# Altium schematic symbol library thuvienthong.SchLib: 91 symbols
Pins are listed as number, name and electrical type; pins without a type are passive.

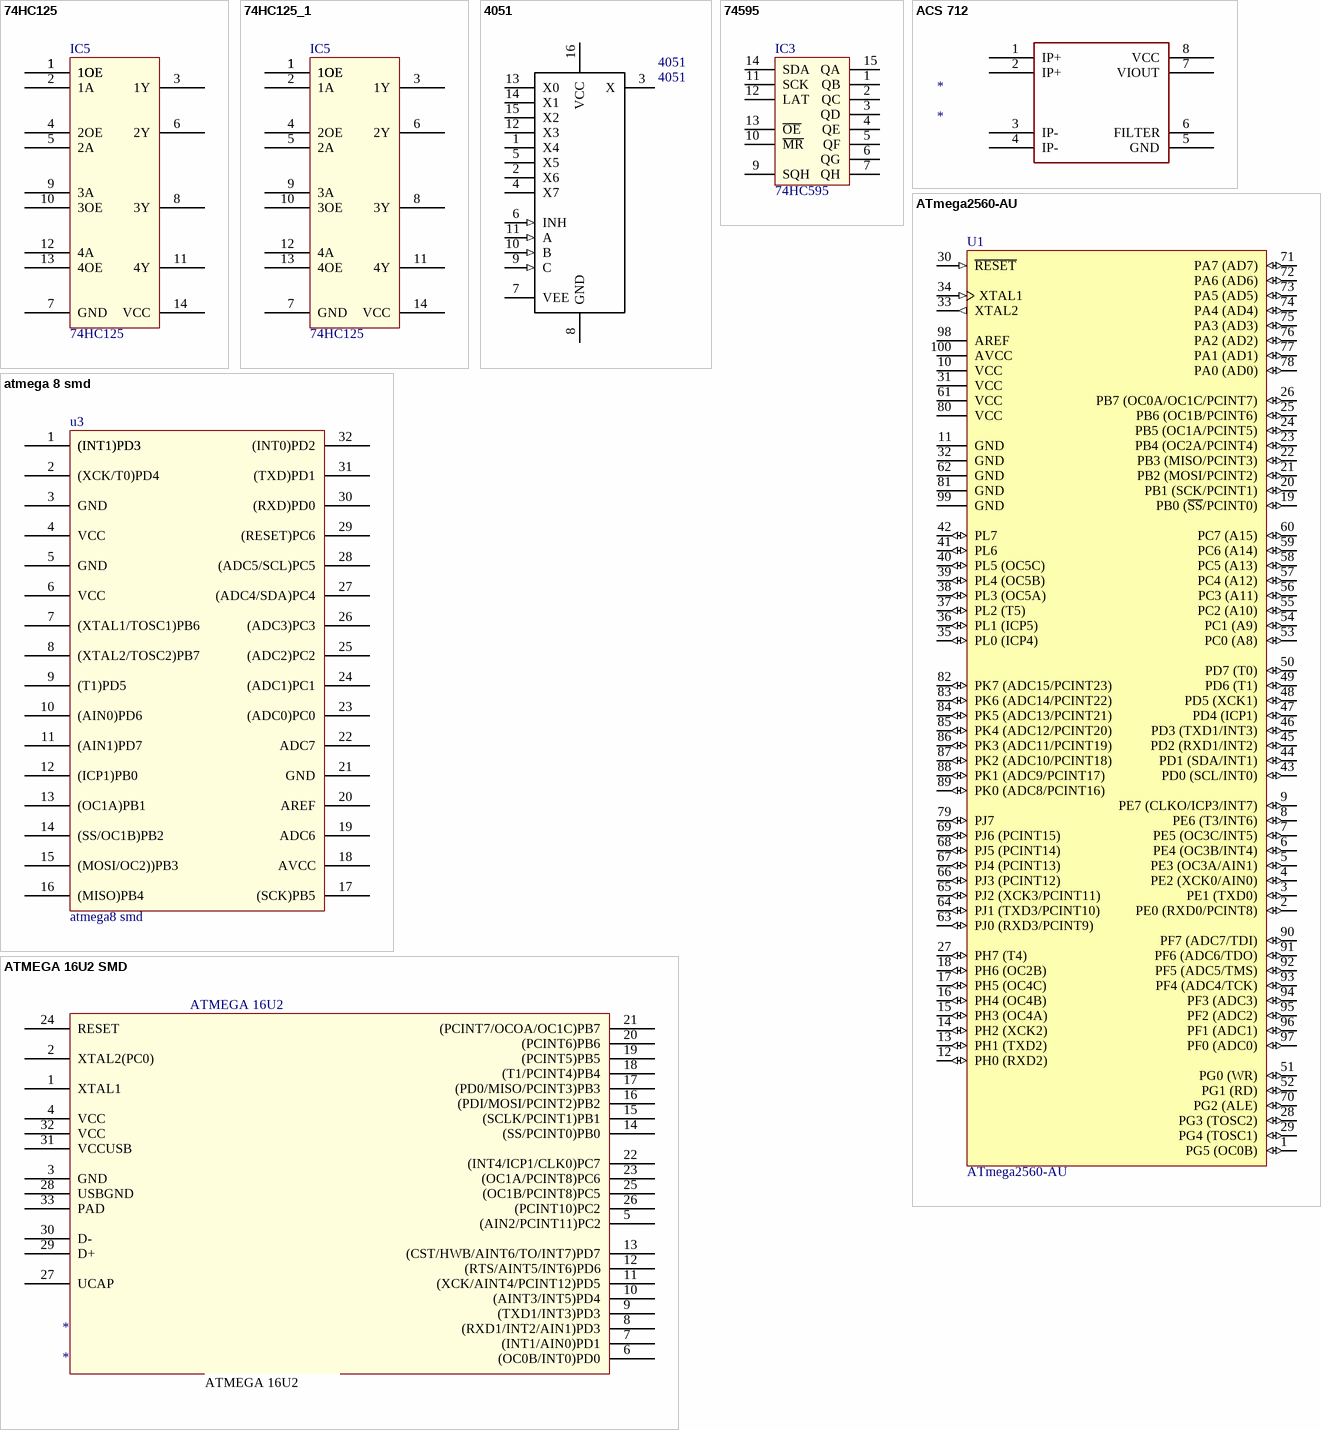
[diagram p0: symbols 74HC125 to ATMEGA 16U2 SMD]

## 74HC125
designator IC5
footprint 74HC125
footprint 74HC125
pins: 1 1OE, 1 1OE, 1 1OE, 1 1OE, 1 1OE, 2 1A, 3 1Y, 4 2OE, 5 2A, 6 2Y, 7 GND, 8 3Y, 9 3A, 10 3OE, 11 4Y, 12 4A, 13 4OE, 14 VCC

## 74HC125_1
designator IC5, comment 74HC125
footprint 74HC125
footprint 74HC125
pins: 1 1OE, 1 1OE, 1 1OE, 1 1OE, 1 1OE, 2 1A, 3 1Y, 4 2OE, 5 2A, 6 2Y, 7 GND, 8 3Y, 9 3A, 10 3OE, 11 4Y, 12 4A, 13 4OE, 14 VCC

## 4051
designator 4051
pins: 1 X4, 2 X6, 3 X, 4 X7, 5 X5, 6 INH (in), 7 VEE, 8 GND (power), 9 C (in), 10 B (in), 11 A (in), 12 X3, 13 X0, 14 X1, 15 X2, 16 VCC (power)

## 74595
designator IC3, comment 74HC595
8 Bit Serial input - Parallel Output; Value: 74HC595
footprint DIP16/W0.3 (16 PIN, W 300mil, Pin to pin 100mil)
footprint SO-16 (SOIC, 16-Leads, Body 9.9x3.9mm, Pitch 1.27mm, IPC Medium Density)
footprint SMD 16 PIN
pins: 1 QB, 2 QC, 3 QD, 4 QE, 5 QF, 6 QG, 7 QH, 8 GND hidden to GND, 9 SQH "OUTPUT", 10 ~{MR} "OUTPUT", 11 SCK "OUTPUT", 12 LAT "OUTPUT", 13 ~{OE} "OUTPUT", 14 SDA "OUTPUT", 15 QA, 16 VCC hidden to VCC

## ACS 712
designator *
footprint MAX 485
pins: 1 IP+, 2 IP+, 3 IP-, 4 IP-, 5 GND, 6 FILTER, 7 VIOUT, 8 VCC

## ATmega2560-AU
designator U1
Supplier 1: Digi-Key; Supplier Part Number 1: ATMEGA2560-16AUR-ND
footprint ATMEGA2560UA
pins: 1 PG5 (OC0B) (io), 2 PE0 (RXD0/PCINT8) (io), 3 PE1 (TXD0) (io), 4 PE2 (XCK0/AIN0) (io), 5 PE3 (OC3A/AIN1) (io), 6 PE4 (OC3B/INT4) (io), 7 PE5 (OC3C/INT5) (io), 8 PE6 (T3/INT6) (io), 9 PE7 (CLKO/ICP3/INT7) (io), 10 VCC (power), 11 GND (power), 12 PH0 (RXD2) (io), 13 PH1 (TXD2) (io), 14 PH2 (XCK2) (io), 15 PH3 (OC4A) (io), 16 PH4 (OC4B) (io), 17 PH5 (OC4C) (io), 18 PH6 (OC2B) (io), 19 PB0 (~{SS}/PCINT0) (io), 20 PB1 (SCK/PCINT1) (io), 21 PB2 (MOSI/PCINT2) (io), 22 PB3 (MISO/PCINT3) (io), 23 PB4 (OC2A/PCINT4) (io), 24 PB5 (OC1A/PCINT5) (io), 25 PB6 (OC1B/PCINT6) (io), 26 PB7 (OC0A/OC1C/PCINT7) (io), 27 PH7 (T4) (io), 28 PG3 (TOSC2) (io), 29 PG4 (TOSC1) (io), 30 ~{RESET} (in), 31 VCC (power), 32 GND (power), 33 XTAL2 (out), 34 XTAL1 (in), 35 PL0 (ICP4) (io), 36 PL1 (ICP5) (io), 37 PL2 (T5) (io), 38 PL3 (OC5A) (io), 39 PL4 (OC5B) (io), 40 PL5 (OC5C) (io), 41 PL6 (io), 42 PL7 (io), 43 PD0 (SCL/INT0) (io), 44 PD1 (SDA/INT1) (io), 45 PD2 (RXD1/INT2) (io), 46 PD3 (TXD1/INT3) (io), 47 PD4 (ICP1) (io), 48 PD5 (XCK1) (io), 49 PD6 (T1) (io), 50 PD7 (T0) (io), 51 PG0 (WR) (io), 52 PG1 (RD) (io), 53 PC0 (A8) (io), 54 PC1 (A9) (io), 55 PC2 (A10) (io), 56 PC3 (A11) (io), 57 PC4 (A12) (io), 58 PC5 (A13) (io), 59 PC6 (A14) (io), 60 PC7 (A15) (io), 61 VCC (power), 62 GND (power), 63 PJ0 (RXD3/PCINT9) (io), 64 PJ1 (TXD3/PCINT10) (io), 65 PJ2 (XCK3/PCINT11) (io), 66 PJ3 (PCINT12) (io), 67 PJ4 (PCINT13) (io), 68 PJ5 (PCINT14) (io), 69 PJ6 (PCINT15) (io), 70 PG2 (ALE) (io), 71 PA7 (AD7) (io), 72 PA6 (AD6) (io), 73 PA5 (AD5) (io), 74 PA4 (AD4) (io), 75 PA3 (AD3) (io), 76 PA2 (AD2) (io), 77 PA1 (AD1) (io), 78 PA0 (AD0) (io), 79 PJ7 (io), 80 VCC (power), 81 GND (power), 82 PK7 (ADC15/PCINT23) (io), 83 PK6 (ADC14/PCINT22) (io), 84 PK5 (ADC13/PCINT21) (io), 85 PK4 (ADC12/PCINT20) (io), 86 PK3 (ADC11/PCINT19) (io), 87 PK2 (ADC10/PCINT18) (io), 88 PK1 (ADC9/PCINT17) (io), 89 PK0 (ADC8/PCINT16) (io), 90 PF7 (ADC7/TDI) (io), 91 PF6 (ADC6/TDO) (io), 92 PF5 (ADC5/TMS) (io), 93 PF4 (ADC4/TCK) (io), 94 PF3 (ADC3) (io), 95 PF2 (ADC2) (io), 96 PF1 (ADC1) (io), 97 PF0 (ADC0) (io), 98 AREF (power), 99 GND (power), 100 AVCC (power)

## atmega 8 smd
designator u3, comment atmega8 smd
footprint ATMEGA 8 SMD 32 PIN
pins: 1 (INT1)PD3, 1 (INT1)PD3, 2 (XCK/T0)PD4, 3 GND, 4 VCC, 5 GND, 6 VCC, 7 (XTAL1/TOSC1)PB6, 8 (XTAL2/TOSC2)PB7, 9 (T1)PD5, 10 (AIN0)PD6, 11 (AIN1)PD7, 12 (ICP1)PB0, 13 (OC1A)PB1, 14 (SS/OC1B)PB2, 15 (MOSI/OC2))PB3, 16 (MISO)PB4, 17 (SCK)PB5, 18 AVCC, 19 ADC6, 20 AREF, 21 GND, 22 ADC7, 23 (ADC0)PC0, 24 (ADC1)PC1, 25 (ADC2)PC2, 26 (ADC3)PC3, 27 (ADC4/SDA)PC4, 28 (ADC5/SCL)PC5, 29 (RESET)PC6, 30 (RXD)PD0, 31 (TXD)PD1, 32 (INT0)PD2

## ATMEGA 16U2 SMD
designator *
footprint ATMEGA 16U2 (MLF32)
pins: 1 XTAL1, 2 XTAL2(PC0), 3 GND, 4 VCC, 5 (AIN2/PCINT11)PC2, 6 (OC0B/INT0)PD0, 7 (INT1/AIN0)PD1, 8 (RXD1/INT2/AIN1)PD3, 9 (TXD1/INT3)PD3, 10 (AINT3/INT5)PD4, 11 (XCK/AINT4/PCINT12)PD5, 12 (RTS/AINT5/INT6)PD6, 13 (CST/HWB/AINT6/TO/INT7)PD7, 14 (SS/PCINT0)PB0, 15 (SCLK/PCINT1)PB1, 16 (PDI/MOSI/PCINT2)PB2, 17 (PD0/MISO/PCINT3)PB3, 18 (T1/PCINT4)PB4, 19 (PCINT5)PB5, 20 (PCINT6)PB6, 21 (PCINT7/OCOA/OC1C)PB7, 22 (INT4/ICP1/CLK0)PC7, 23 (OC1A/PCINT8)PC6, 24 RESET, 25 (OC1B/PCINT8)PC5, 26 (PCINT10)PC2, 27 UCAP, 28 USBGND, 29 D+, 30 D-, 31 VCCUSB, 32 VCC, 33 PAD
text: ATMEGA 16U2; ATMEGA 16U2 /

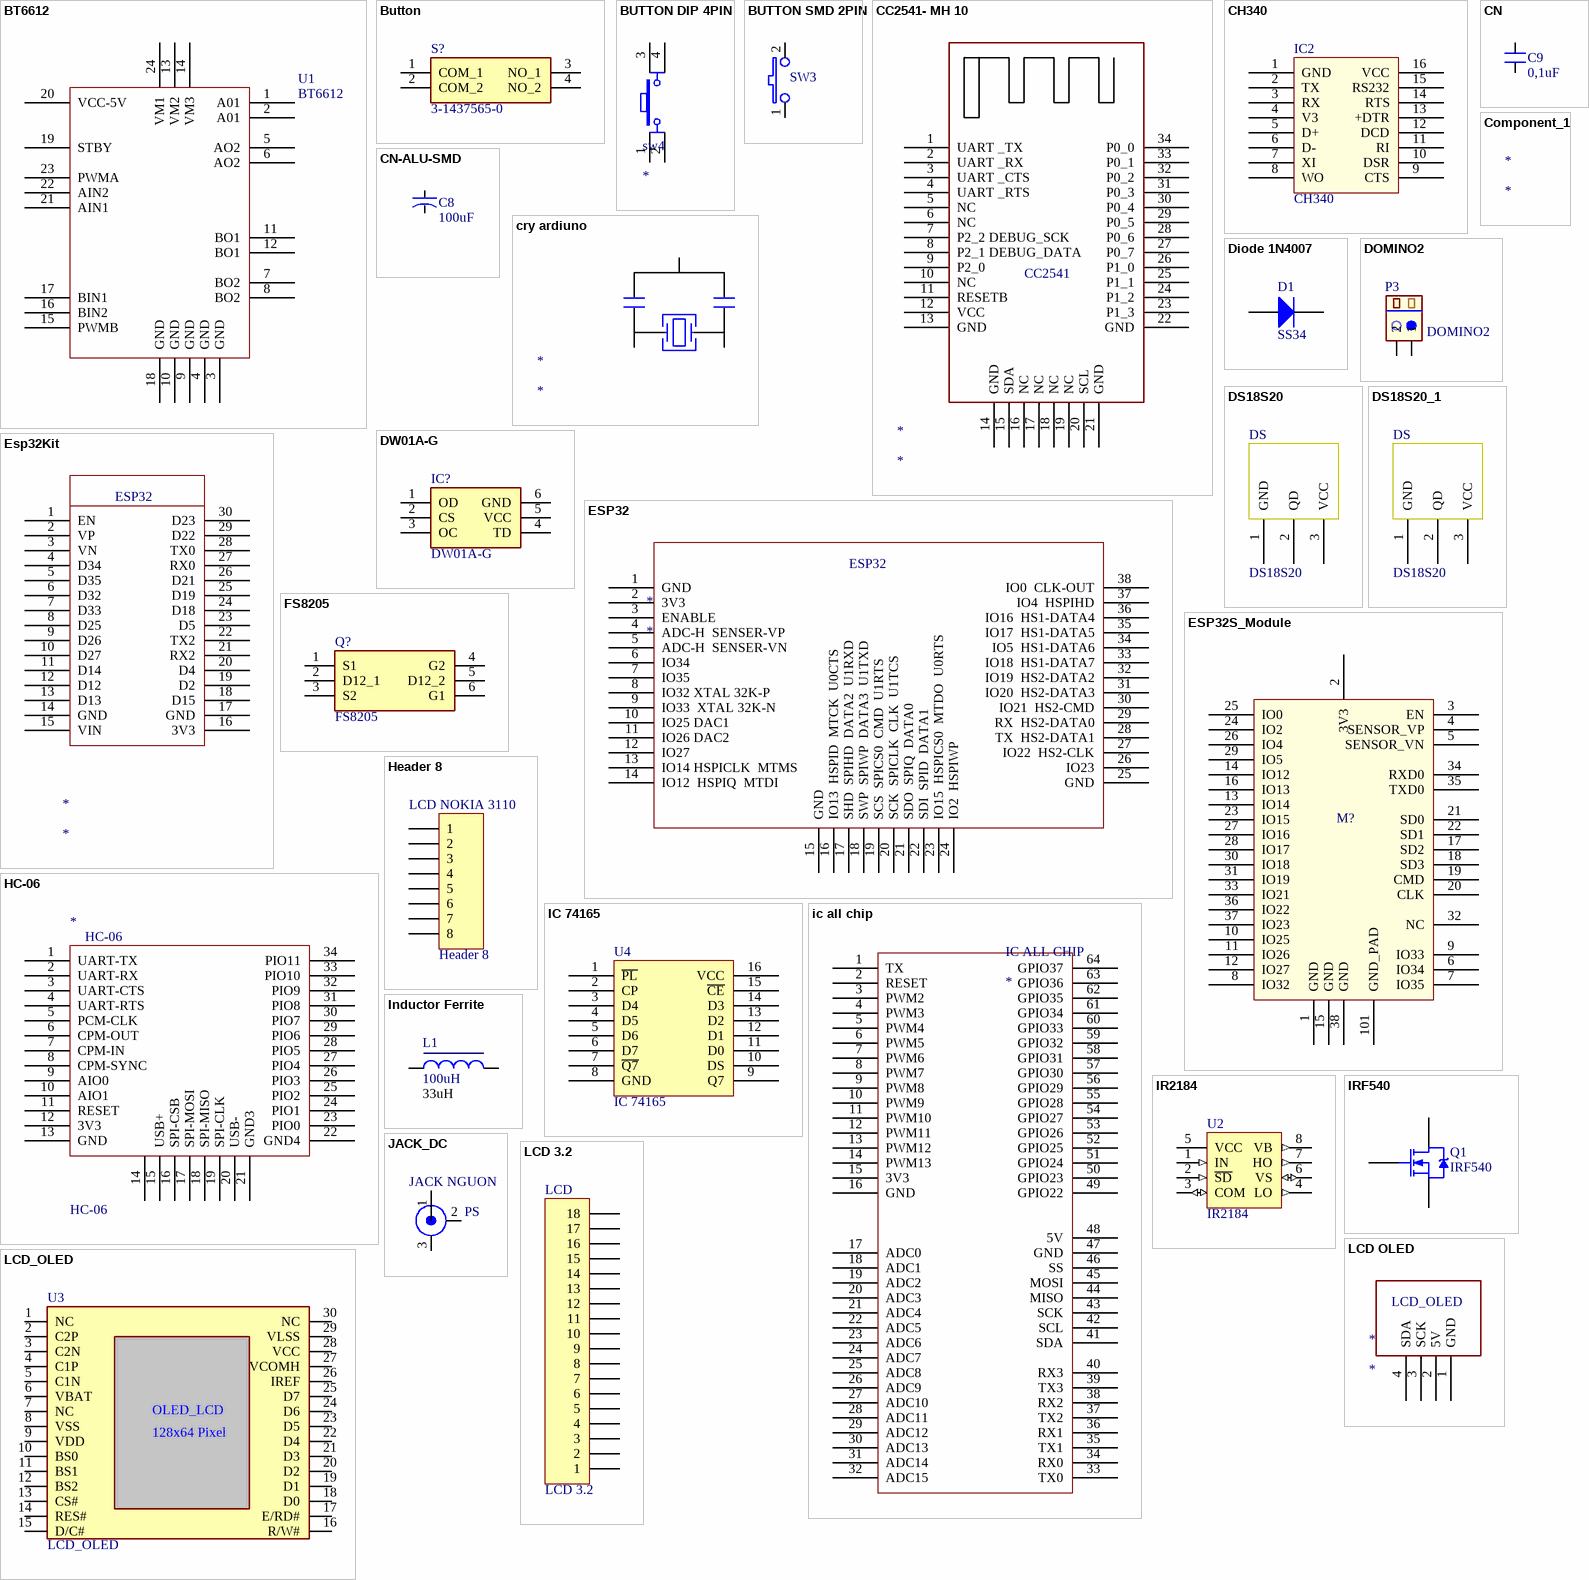
[diagram p1: symbols BT6612 to LCD_OLED]

## BT6612
designator U1
pins: 1 A01, 2 A01, 3 GND, 4 GND, 5 AO2, 6 AO2, 7 BO2, 8 BO2, 9 GND, 10 GND, 11 BO1, 12 BO1, 13 VM2, 14 VM3, 15 PWMB, 16 BIN2, 17 BIN1, 18 GND, 19 STBY, 20 VCC-5V, 21 AIN1, 22 AIN2, 23 PWMA, 24 VM1

## Button
designator S?, comment 3-1437565-0
Switch; Manufacturer_Name: TE Connectivity; Datasheet Link: https://www.te.com/commerce/DocumentDelivery/DDEController?Action=showdoc&DocId=Customer+Drawing%7F2-1437565-7%7FV%7Fpdf%7FEnglish%7FENG_CD_2-1437565-7_V.pdf%7F3-1437565-0; Height: 4.39mm; Manufacturer_Part_Number: 3-1437565-0; Mouser Part Number: 506-3-1437565-0; Mouser Price/Stock: https://www.mouser.co.uk/ProductDetail/TE-Connectivity-PB/3-1437565-0?qs=%2FwXgF%2FfIho%2FDAgSy8ONeew%3D%3D; Arrow Part Number: 3-1437565-0; Arrow Price/Stock: https://www.arrow.com/en/products/3-1437565-0/te-connectivity
footprint Button SMD
pins: 1 COM_1, 2 COM_2, 3 NO_1, 4 NO_2

## BUTTON DIP 4PIN
designator sw4
footprint SW4B (SW button 4pin, 450 x 450 mil)
pins: 1, 2, 3, 4

## BUTTON SMD 2PIN
designator SW3, comment PTS635  (value not drawn)
BUTTON SMD 2PIN; Manufacturer: C&K Components; Manufacturer P/N: PTS635SL25SMTR LFS; Vendor: Digikey; Vendor P/N: CKN9119CT-ND; ComponentLink1URL: http://search.digikey.com/scripts/DkSearch/dksus.dll?Detail&name=CKN1573CT-ND; ComponentLink2URL: H:\LIBRARY\LIBRARY.Datasheet\SBLCDA4_Specification.pdf; ComponentLink1Description: Digikey Part Link; ComponentLink2Description: Open Datasheet; Publisher: Hoang Nguyen; Published: 13-April-2009
footprint BUTTON SMD 2PIN (3,5 mm Tact Switches, PTS635 Series)
pins: 1, 2

## CC2541- MH 10
designator *
footprint BLE-HM-10
pins: 1 UART _TX, 2 UART _RX, 3 UART _CTS, 4 UART _RTS, 5 NC, 6 NC, 7 P2_2 DEBUG_SCK, 8 P2_1 DEBUG_DATA, 9 P2_0, 10 NC, 11 RESETB, 12 VCC, 13 GND, 14 GND, 15 SDA, 16 NC, 17 NC, 18 NC, 19 NC, 20 SCL, 21 GND, 22 GND, 23 P1_3, 24 P1_2, 25 P1_1, 26 P1_0, 27 P0_7, 28 P0_6, 29 P0_5, 30 P0_4, 31 P0_3, 32 P0_2, 33 P0_1, 34 P0_0
text: CC2541

## CH340
designator IC2
footprint ch340 g
pins: 1 GND, 2 TX, 3 RX, 4 V3, 5 D+, 6 D-, 7 XI, 8 WO, 9 CTS, 10 DSR, 11 RI, 12 DCD, 13 +DTR, 14 RTS, 15 RS232, 16 VCC

## CN
designator C9, comment 0,1uF
0,1uF/300V; Designed by: VanDungEvn; Value: 0,1uF/300V
footprint C0603
footprint SM-CAP-0805
footprint C1206
pins: 1, 2

## CN-ALU-SMD
designator C8, comment 100uF
Polarized Capacitor (Axial); Published: 8-Jun-2000; LatestRevisionDate: 17-Jul-2002; LatestRevisionNote: Re-released for DXP Platform.; PackageReference: POLAR0.8; Publisher: Altium Limited
footprint CAP-ALU-SMD-4.5x5x1.4
footprint CAP-ALU-SMD-5x5.5x1.4
footprint CAP-ALU-SMD-5.5x5.5
footprint CAP-ALU-SMD-6.3x7.7x2.2
footprint CAP-ALU-SMD-C
footprint CAP-ALU-SMD-D
footprint CAP-ALU-SMD-F
footprint CAP-ALU-SMD-G
footprint CAP-ALU-SMD-H
footprint CAP-ALU-SMD-J
footprint CAP-ALU-SMD-K
pins: 1, 2
1 alternate drawing of the same symbol

## Component_1
designator *

## cry ardiuno
designator *
footprint XTAL ARDUINO (RESONATOR)
pins: 1, 1, 1, 2 GND, 2, 2, 3

## Diode 1N4007
designator D1, comment SS34
1 Amp General Purpose Rectifier; Published: 8-Jun-2000; LatestRevisionDate: 17-Jul-2002; LatestRevisionNote: Re-released for DXP Platform.; DatasheetVersion: 1998; PackageVersion: Aug-1999; PackageReference: DO-41; Publisher: Altium Limited; PackageDescription: Diode, Axial; Body 5.2 x 2.7 mm (LxDia. max), Lead Dia. 0.86 mm (max); Code_JEDEC: DO-204-AL; ComponentLink1Description: Manufacturer Link; ComponentLink1URL: http://www.fairchildsemi.com/; ComponentLink2Description: Datasheet; ComponentLink2URL: http://www.fairchildsemi.com/ds/1N%2F1N4001.pdf
footprint DIOT
pins: 1 A, 2 K

## DOMINO2
designator P3
footprint DOMINO2
pins: 1, 2

## DS18S20
designator DS
footprint TO-92A (TO, Flat Index; 3 In-Line, Axial Leads; Body Dia. 4.5mm; Leads 0.51 x 0.48 mm (max); ECB Position)
footprint TO92 (TO, Flat Index; 3 In-Line, Axial Leads; Body Dia. 4.6mm; Leads 0.53 x 0.39 mm (max))
footprint TO92 (TO, Flat Index; 3 In-Line, Axial Leads; Body Dia. 4.6mm; Leads 0.53 x 0.39 mm (max))
pins: 1 GND, 2 QD, 3 VCC

## DS18S20_1
designator DS, comment DS18S20
footprint TO-92A (TO, Flat Index; 3 In-Line, Axial Leads; Body Dia. 4.5mm; Leads 0.51 x 0.48 mm (max); ECB Position)
footprint TO92 (TO, Flat Index; 3 In-Line, Axial Leads; Body Dia. 4.6mm; Leads 0.53 x 0.39 mm (max))
pins: 1 GND, 2 QD, 3 VCC

## DW01A-G
designator IC?
Integrated Circuit; Manufacturer_Name: Fortune Semiconductor Corporation; Datasheet Link: http://acoptex.com/uploads/DW01A.pdf; Height: 1.35mm; Manufacturer_Part_Number: DW01A-G
footprint DW01A-G
pins: 1 OD, 2 CS, 3 OC, 4 TD, 5 VCC, 6 GND

## ESP32
designator *
footprint ESP-32
pins: 1 GND, 2 3V3, 3 ENABLE, 4 ADC-H  SENSER-VP, 5 ADC-H  SENSER-VN, 6 IO34, 7 IO35, 8 IO32 XTAL 32K-P, 9 IO33  XTAL 32K-N, 10 IO25 DAC1, 11 IO26 DAC2, 12 IO27, 13 IO14 HSPICLK  MTMS, 14 IO12  HSPIQ  MTDI, 15 GND, 16 IO13  HSPID  MTCK  U0CTS, 17 SHD  SPIHD  DATA2  U1RXD, 18 SWP  SPIWP  DATA3  U1TXD, 19 SCS  SPICS0  CMD  U1RTS, 20 SCK  SPICLK  CLK  U1TCS, 21 SDO  SPIQ  DATA0  , 22 SDI  SPID  DATA1, 23 IO15  HSPICS0  MTDO  U0RTS, 24 IO2  HSPIWP, 25 GND, 26 IO23, 27 IO22  HS2-CLK, 28 TX  HS2-DATA1, 29 RX  HS2-DATA0, 30 IO21  HS2-CMD, 31 IO20  HS2-DATA3, 32 IO19  HS2-DATA2, 33 IO18  HS1-DATA7, 34 IO5  HS1-DATA6, 35 IO17  HS1-DATA5, 36 IO16  HS1-DATA4, 37 IO4  HSPIHD, 38 IO0  CLK-OUT

## Esp32Kit
designator *
footprint ESP32Kit
pins: 1 EN, 2 VP, 3 VN, 4 D34, 5 D35, 6 D32, 7 D33, 8 D25, 9 D26, 10 D27, 11 D14, 12 D12, 13 D13, 14 GND, 15 VIN, 16 3V3, 17 GND, 18 D15, 19 D2, 20 D4, 21 RX2, 22 TX2, 23 D5, 24 D18, 25 D19, 26 D21, 27 RX0, 28 TX0, 29 D22, 30 D23
text: ESP32

## ESP32S_Module
designator M?  (value not drawn)
Esp-32S; Datasheet: https://espressif.com/sites/default/files/documentation/esp_wroom_32_datasheet_en.pdf
footprint ESP32
pins: 1 GND (power), 2 3V3 (power), 3 EN (power), 4 SENSOR_VP, 5 SENSOR_VN, 6 IO34, 7 IO35, 8 IO32, 9 IO33, 10 IO25, 11 IO26, 12 IO27, 13 IO14, 14 IO12, 15 GND (power), 16 IO13, 17 SD2, 18 SD3, 19 CMD, 20 CLK, 21 SD0, 22 SD1, 23 IO15, 24 IO2, 25 IO0, 26 IO4, 27 IO16, 28 IO17, 29 IO5, 30 IO18, 31 IO19, 32 NC, 33 IO21, 34 RXD0, 35 TXD0, 36 IO22, 37 IO23, 38 GND (power), 101 GND_PAD (power)

## FS8205
designator Q?
MOSFET (N-Channel); Manufacturer_Name: Fortune Semiconductor Corporation; Datasheet Link: https://www.ic-fortune.com/upload/Download/FS8205-DS-19_EN.pdf; Height: 1mm; Manufacturer_Part_Number: FS8205
footprint FS8205
pins: 1 S1, 2 D12_1, 3 S2, 4 G2, 5 D12_2, 6 G1

## HC-06
designator *
footprint HC-06
pins: 1 UART-TX, 2 UART-RX, 3 UART-CTS, 4 UART-RTS, 5 PCM-CLK, 6 CPM-OUT, 7 CPM-IN, 8 CPM-SYNC, 9 AIO0, 10 AIO1, 11 RESET, 12 3V3, 13 GND, 14, 15 USB+, 16 SPI-CSB, 17 SPI-MOSI, 18 SPI-MISO, 19 SPI-CLK, 20 USB-, 21 GND3, 22 GND4, 23 PIO0, 24 PIO1, 25 PIO2, 26 PIO3, 27 PIO4, 28 PIO5, 29 PIO6, 30 PIO7, 31 PIO8, 32 PIO9, 33 PIO10, 34 PIO11

## Header 8
designator LCD NOKIA 3110
Header, 8-Pin; LatestRevisionDate: 17-Jul-2002; LatestRevisionNote: Re-released for DXP Platform.; Publisher: Altium Limited
footprint Header 8 (Connector; Header; 8 Position)
footprint Header 8-V (Connector; Header; 8 Position; Vertical; Solder Pad 35mil)
footprint LCD Nokia 3310
pins: 1, 2, 3, 4, 5, 6, 7, 8

## IC 74165
designator U4
footprint SOIC-16N (SOIC, 16-Leads, Body 10.0x4.0mm (max), Pitch 1.27mm, IPC Medium Density)
footprint 74595
pins: 1 ~{PL}, 2 CP, 3 D4, 4 D5, 5 D6, 6 D7, 7 ~{Q7}, 8 GND, 9 Q7, 10 DS, 11 D0, 12 D1, 13 D2, 14 D3, 15 ~{CE}, 16 VCC

## ic all chip
designator IC ALL CHIP
footprint IC ALL CHIP
pins: 1 TX, 2 RESET, 3 PWM2, 4 PWM3, 5 PWM4, 6 PWM5, 7 PWM6, 8 PWM7, 9 PWM8, 10 PWM9, 11 PWM10, 12 PWM11, 13 PWM12, 14 PWM13, 15 3V3, 16 GND, 17 ADC0, 18 ADC1, 19 ADC2, 20 ADC3, 21 ADC4, 22 ADC5, 23 ADC6, 24 ADC7, 25 ADC8, 26 ADC9, 27 ADC10, 28 ADC11, 29 ADC12, 30 ADC13, 31 ADC14, 32 ADC15, 33 TX0, 34 RX0, 35 TX1, 36 RX1, 37 TX2, 38 RX2, 39 TX3, 40 RX3, 41 SDA, 42 SCL, 43 SCK, 44 MISO, 45 MOSI, 46 SS, 47 GND, 48 5V, 49 GPIO22, 50 GPIO23, 51 GPIO24, 52 GPIO25, 53 GPIO26, 54 GPIO27, 55 GPIO28, 56 GPIO29, 57 GPIO30, 58 GPIO31, 59 GPIO32, 60 GPIO33, 61 GPIO34, 62 GPIO35, 63 GPIO36, 64 GPIO37

## Inductor Ferrite
designator L1, comment 100uH  value 33uH
Cuon Cam L; Code_IEC: 1005; Vendor: Digikey; Published: 8-Jun-2000; LatestRevisionDate: 17-Jul-2002; LatestRevisionNote: Re-released for DXP Platform.; PackageReference: 0402-A; Publisher: Altium Limited; Code_JEITA: 0402; ComponentLink1Description: Digikey Part Link; ComponentLink2Description: Open Datasheet; ComponentLink2URL: H:\LIBRARY\LIBRARY.Datasheet\
footprint cuon cam
footprint Inductor SMD 2
pins: 1, 2

## IR2184
designator U2
HALF-BRIDGE DRIVER; Voffset: 600V(max); IO+/-: 130mA/270mA; Vout: 10-20V; Deadtime: 520ns; Input logic: 3V3/5V
footprint MAX 485
pins: 1 IN (in), 2 ~{SD} (in), 3 COM (io), 4 LO (out), 5 VCC (power), 6 VS (io), 7 HO (out), 8 VB (out)

## IRF540
designator Q1
HEXFET N-Channel Power MOSFET; Note: Pin 2 is electrically connected to pin 4.; Published: 8-Jun-2000; LatestRevisionDate: 17-Jul-2002; LatestRevisionNote: Re-released for DXP Platform.; DatasheetVersion: PD-9.373H; PackageVersion: Feb-1997; PackageReference: TO-220AB; Publisher: Altium Limited; PackageDescription: TO, Thru-Hole, Vertical, Heatsink Mounted; 3 In-Line Leads; Pitch 2.54 mm; ComponentLink1Description: Manufacturer Link; ComponentLink1URL: http://www.irf.com/
pins: 1 G, 2 D, 3 S

## JACK_DC
designator JACK NGUON, comment PS
DC Power Jack, 2.5mm, KLD Series, PCB Mount; Vendor: Nhat Tao; ComponentLink1Description: Digikey Part link; ComponentLink2Description: Open DataSheet; ComponentLink2URL: H:\LIBRARY\LIBRARY.Datasheet\; Price: 1.500VND
footprint jack nguon
pins: 1 CENTER (power), 2 SHIELD (power), 3 SHIELD

## LCD 3.2
designator LCD
https://detail.1688.com/offer/574624404489.html?spm=b26110380.sw1688.mof001.233.296325ccvAOID9; LatestRevisionDate: 17-Jul-2002; LatestRevisionNote: Re-released for DXP Platform.; Publisher: Altium Limited
footprint 3.2Inch_ILI9341
pins: 1, 2, 3, 4, 5, 6, 7, 8, 9, 10, 11, 12, 13, 14, 15, 16, 17, 18

## LCD OLED
designator *
footprint LCD_OLED - duplicate
pins: 1 GND, 2 5V, 3 SCK, 4 SDA
text: LCD_OLED

## LCD_OLED
designator U3
SSD1306
footprint LCD_OLED
pins: 1 NC, 2 C2P, 3 C2N, 4 C1P, 5 C1N, 6 VBAT, 7 NC, 8 VSS, 9 VDD, 10 BS0, 11 BS1, 12 BS2, 13 CS#, 14 RES#, 15 D/C#, 16 R/W#, 17 E/RD#, 18 D0, 19 D1, 20 D2, 21 D3, 22 D4, 23 D5, 24 D6, 25 D7, 26 IREF, 27 VCOMH, 28 VCC, 29 VLSS, 30 NC
text: OLED_LCD; 128x64 Pixel

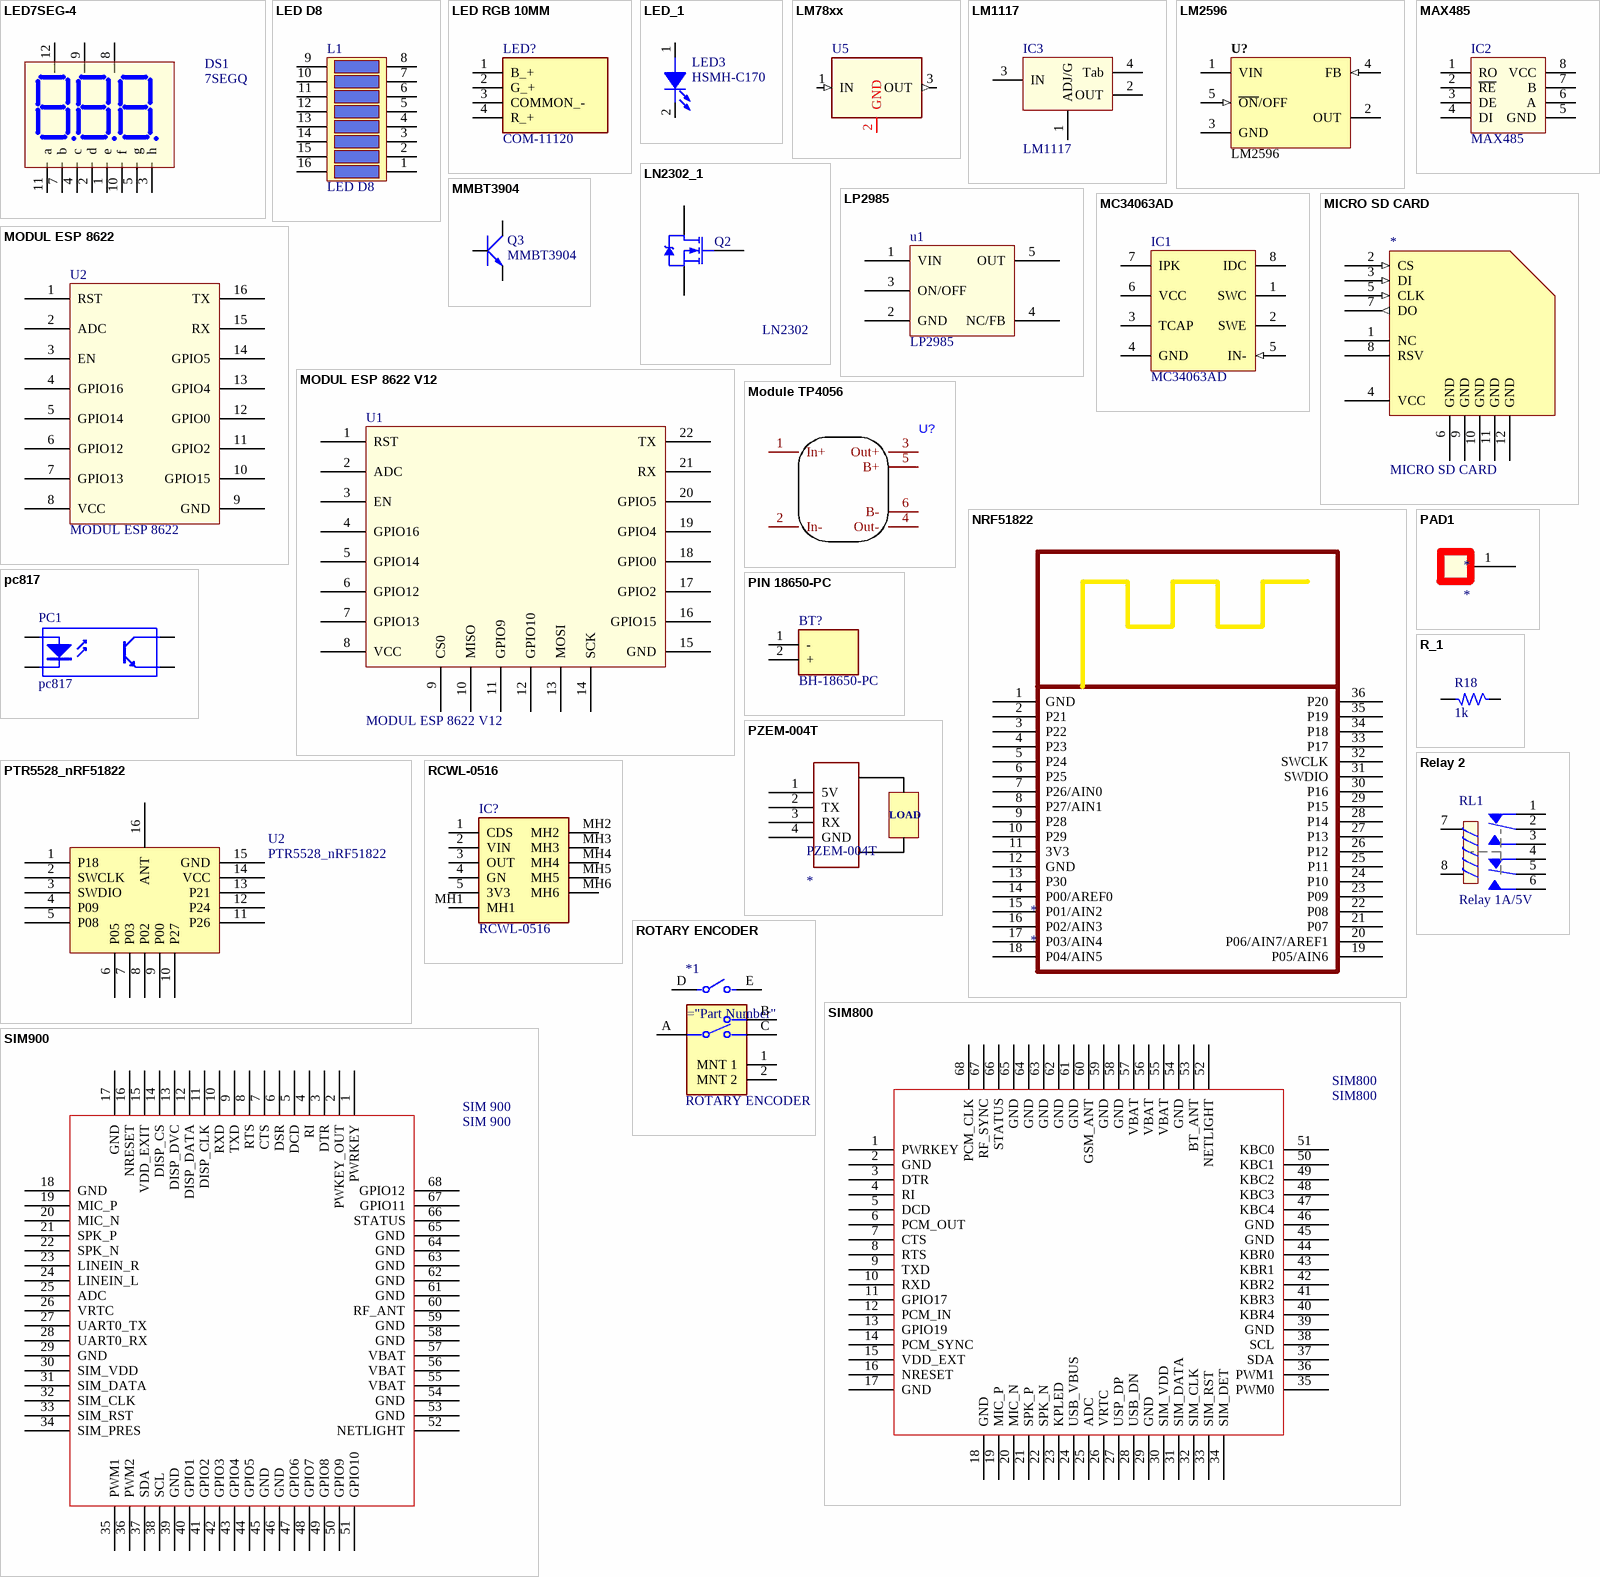
[diagram p2: symbols LED7SEG-4 to SIM900]

## LED7SEG-4
designator DS1, comment 7SEGQ
Four 7 Seg Dipslay; Value: LED 7Q SEG
footprint LED7SEG-3-0.36
pins: 1 e, 2 d, 3 h, 4 c, 5 g, 7 b, 8 V3, 9 V2, 10 f, 11 a, 12 V1

## LED D8
designator L1
footprint LED D8
pins: 1, 2, 3, 4, 5, 6, 7, 8, 9, 10, 11, 12, 13, 14, 15, 16

## LED RGB 10MM
designator LED?, comment COM-11120
LED; Manufacturer_Name: SparkFun; Datasheet Link: http://cdn.sparkfun.com/datasheets/Components/General/YSL-R1047CR4G3BW-F8.pdf; Height: 13mm; Manufacturer_Part_Number: COM-11120; Mouser Part Number: 474-COM-11120; Mouser Price/Stock: https://www.mouser.co.uk/ProductDetail/SparkFun/COM-11120?qs=WyAARYrbSnauAm%2FsFIz3Fw%3D%3D; Arrow Part Number: COM-11120; Arrow Price/Stock: https://www.arrow.com/en/products/com-11120/sparkfun-electronics
footprint LED RGB 10MM
pins: 1 B_+, 2 G_+, 3 COMMON_-, 4 R_+

## LED_1
designator LED3, comment HSMH-C170
Typical GaAs SMD LED; Manufacturer: Lite-On Inc; Color: RED; Type: Cong ty RP; Vendor: Digikey; Publisher: Hoang Nguyen; Price: *; Published: 13-April-2009; ComponentLink1Description: Digikey Part Link; ComponentLink2Description: Open Datasheet; ComponentLink2URL: H:\LIBRARY\LIBRARY.Datasheet\
footprint LED
footprint LED0402
pins: 1 A, 2 K

## LM78xx
designator U5, comment LM7812  (value not drawn)
Regulator; Manufacturer: Fairchild Semiconductor Corporation; PSpiceTemplate: X^@REFDES %IN %OUT %GND @MODEL; Vendor: Digikey; Output Current: Up to 1A; V out: 5V; Tolerance: 4 %; Value: LM7805CT; Published: 13-April-2009; Publisher: Hoang Nguyen; ComponentLink1Description: Digikey Part Link; ComponentLink2Description: Open Datasheet; ComponentLink2URL: H:\LIBRARY\LIBRARY.Datasheet\LM7805.pdf; Price: 2500 VND
pins: 1 IN (in), 2 GND (power), 3 OUT (out)

## LM1117
designator IC3
3v3; Value: LM317
footprint LM1117-3V3-5V
pins: 1 ADJ/G, 2 OUT, 3 IN, 4 Tab

## LM2596
designator U?
Max Input Voltage: 12 V; Max Output Current: 3 (6.0 peak) A; Max Output Voltage: mV; Category: IC-Power; Min Input Voltage: mV; Min Output Voltage: mV; Mounting Technology: Surface Mount; Status: Unreleased; Supply Voltage: mV; Temperature Range: -40 to +125 degC
footprint TO263
footprint DIP5
footprint DIP5-T
pins: 1 VIN (power), 2 OUT (power), 3 GND (power), 4 FB (in), 5 ~{ON}/OFF (in)

## LN2302_1
designator Q2, comment LN2302
footprint LN2302
pins: 1 G, 2 S, 3 D

## LP2985
designator u1
footprint lp2985
pins: 1 VIN, 2 GND, 3 ON/OFF, 4 NC/FB, 5 OUT

## MAX485
designator IC2
RS232 - RS485 (Same sn75176)
footprint MAX 485
pins: 1 RO "Receiver Output", 2 ~{RE} "Receiver Enable Output", 3 DE "Driver Enable Output", 4 DI "Driver Input", 5 GND, 6 A "RI & NoneDO", 7 B "NoneDI", 8 VCC

## MC34063AD
designator IC1
Published: 15-Apr-2002; LatestRevisionDate: 13-Apr-2006; LatestRevisionNote: IPC-7351 Footprint Added.; DatasheetVersion: 1996; PackageVersion: 1998; PackageReference: 751-05; Publisher: Altium Limited; PackageDescription: 8-Pin Small Outline Integrated Circuit 1.27 mm Pitch; Code_JEDEC: MS-012-AA; Code_IPC: SOIC127P600-8; ComponentLink1Description: Manufacturer Link; ComponentLink1URL: http://www.onsemi.com/site/products/taxonomy/0,4438,503,00.html; ComponentLink2Description: Datasheet; ComponentLink2URL: http://www.onsemi.com/pub/Collateral/MC34063A-D.PDF; LINK: https://www.google.com.vn/url?sa=t&rct=j&q=&esrc=s&source=web&cd=5&ved=0CDgQFjAE&url=https%3A%2F%2Fwww.sparkfun.com%2Fdatasheets%2FIC%2FMC34063A.pdf&ei=OgZSU8zVFYb7iQef-YH4Bg&usg=AFQjCNGii9dwO7VwMV2nAUrN7m8GgAE-_g&sig2=bcp2pefE7k0X3dRLAPgaEw&bvm=bv.65058239,d.aGc&cad=rja
footprint SMD 8 PIN
pins: 1 SWC, 2 SWE, 3 TCAP, 4 GND (power), 5 IN- (in), 6 VCC (power), 7 IPK, 8 IDC (oc)

## MICRO SD CARD
designator *
footprint MICRO USB - duplicate
pins: 1 NC, 2 CS (in), 3 DI (in), 4 VCC, 5 CLK (in), 6 GND, 7 DO (out), 8 RSV, 9 GND, 10 GND, 11 GND, 12 GND

## MMBT3904
designator Q3
footprint MMBT 3904
pins: 1 B, 2 E, 3 C

## MODUL ESP 8622
designator U2
footprint esp8622 v7
pins: 1 RST, 2 ADC, 3 EN, 4 GPIO16, 5 GPIO14, 6 GPIO12, 7 GPIO13, 8 VCC, 9 GND, 10 GPIO15, 11 GPIO2, 12 GPIO0, 13 GPIO4, 14 GPIO5, 15 RX, 16 TX

## MODUL ESP 8622 V12
designator U1
footprint ESP8622 V12
pins: 1 RST, 2 ADC, 3 EN, 4 GPIO16, 5 GPIO14, 6 GPIO12, 7 GPIO13, 8 VCC, 9 CS0, 10 MISO, 11 GPIO9, 12 GPIO10, 13 MOSI, 14 SCK, 15 GND, 16 GPIO15, 17 GPIO2, 18 GPIO0, 19 GPIO4, 20 GPIO5, 21 RX, 22 TX

## Module TP4056
designator U?
footprint Module TP4056
pins: 1 In+, 2 In-, 3 Out+, 4 Out-, 5 B+, 6 B-

## NRF51822
designator *
footprint NRF51822
pins: 1 GND, 2 P21, 3 P22, 4 P23, 5 P24, 6 P25, 7 P26/AIN0, 8 P27/AIN1, 9 P28, 10 P29, 11 3V3, 12 GND, 13 P30, 14 P00/AREF0, 15 P01/AIN2, 16 P02/AIN3, 17 P03/AIN4, 18 P04/AIN5, 19 P05/AIN6, 20 P06/AIN7/AREF1, 21 P07, 22 P08, 23 P09, 24 P10, 25 P11, 26 P12, 27 P13, 28 P14, 29 P15, 30 P16, 31 SWDIO, 32 SWCLK, 33 P17, 34 P18, 35 P19, 36 P20

## PAD1
designator *
footprint TOUCH
pins: 1

## pc817
designator PC1
footprint PC817
pins: 1 A "Anode", 2 K "Cathode", 3 E "Emitter", 4 C "Collector"

## PIN 18650-PC
designator BT?, comment BH-18650-PC
Battery; Manufacturer_Name: MPD (Memory Protection Devices); Datasheet Link: http://www.memoryprotectiondevices.com/datasheets/BH-18650-PC-datasheet.pdf; Height: 21.31mm; Manufacturer_Part_Number: BH-18650-PC
footprint PIN 18650PC
pins: 1 -, 2 +

## PTR5528_nRF51822
designator U2
footprint PTR5528 (https://vi.aliexpress.com/item/1705429590.html)
pins: 1 P18, 2 SWCLK, 3 SWDIO, 4 P09, 5 P08, 6 P05, 7 P03, 8 P02, 9 P00, 10 P27, 11 P26, 12 P24, 13 P21, 14 VCC, 15 GND, 16 ANT

## PZEM-004T
designator PZEM-004T
PZEM-004T
footprint HDR4 (Connector; Header; 4 Position)
pins: 1 5V, 2 TX, 3 RX, 4 GND
text: LOAD

## R_1
designator R18, comment 1k
Resistor 1/4W; Value: R1/4W - 1K
footprint R0603
footprint SM-RES-0805
footprint R1206
pins: 1, 2

## RCWL-0516
designator IC?
Integrated Circuit; Manufacturer_Name: icstation; Datasheet Link: http://www.icstation.com/5pcs-rcwl-0516-microwave-motion-sensor-module-radar-sensor-body-induction-module-100ma-p-13196.html; Height: 5mm; Manufacturer_Part_Number: RCWL-0516
footprint RCWL0516
pins: 1 CDS, 2 VIN, 3 OUT, 4 GN, 5 3V3, MH1, MH2, MH3, MH4, MH5, MH6

## Relay 2
designator RL1, comment Relay 1A/5V
Relay DPDT; Discription: Relay DPDT 5V, 12V - 1A - 5A; Value: Relay - 5V - 1A
pins: 1, 2, 3, 4, 5, 6, 7, 8

## ROTARY ENCODER
designator *1
footprint ROTARY ENCODER
pins: 1 MNT 1, 2 MNT 2, A, B, C, D, E

## SIM800
designator SIM800
footprint SIM 900
pins: 1 PWRKEY, 2 GND, 3 DTR, 4 RI, 5 DCD, 6 PCM_OUT, 7 CTS, 8 RTS, 9 TXD, 10 RXD, 11 GPIO17, 12 PCM_IN, 13 GPIO19, 14 PCM_SYNC, 15 VDD_EXT, 16 NRESET, 17 GND, 18 GND, 19 MIC_P, 20 MIC_N, 21 SPK_P, 22 SPK_N, 23 KPLED, 24 USB_VBUS, 25 ADC, 26 VRTC, 27 USP_DP, 28 USB_DN, 29 GND, 30 SIM_VDD, 31 SIM_DATA, 32 SIM_CLK, 33 SIM_RST, 34 SIM_DET, 35 PWM0, 36 PWM1, 37 SDA, 38 SCL, 39 GND, 40 KBR4, 41 KBR3, 42 KBR2, 43 KBR1, 44 KBR0, 45 GND, 46 GND, 47 KBC4, 48 KBC3, 49 KBC2, 50 KBC1, 51 KBC0, 52 NETLIGHT, 53 BT_ANT, 54 GND, 55 VBAT, 56 VBAT, 57 VBAT, 58 GND, 59 GND, 60 GSM_ANT, 61 GND, 62 GND, 63 GND, 64 GND, 65 GND, 66 STATUS, 67 RF_SYNC, 68 PCM_CLK

## SIM900
designator SIM 900, comment SIM 900
footprint SIM 900
pins: 1 PWRKEY, 2 PWKEY_OUT, 3 DTR, 4 RI, 5 DCD, 6 DSR, 7 CTS, 8 RTS, 9 TXD, 10 RXD, 11 DISP_CLK, 12 DISP_DATA, 13 DISP_DVC, 14 DISP_CS, 15 VDD_EXIT, 16 NRESET, 17 GND, 18 GND, 19 MIC_P, 20 MIC_N, 21 SPK_P, 22 SPK_N, 23 LINEIN_R, 24 LINEIN_L, 25 ADC, 26 VRTC, 27 UART0_TX, 28 UART0_RX, 29 GND, 30 SIM_VDD, 31 SIM_DATA, 32 SIM_CLK, 33 SIM_RST, 34 SIM_PRES, 35 PWM1, 36 PWM2, 37 SDA, 38 SCL, 39 GND, 40 GPIO1, 41 GPIO2, 42 GPIO3, 43 GPIO4, 44 GPIO5, 45 GND, 46 GND, 47 GPIO6, 48 GPIO7, 49 GPIO8, 50 GPIO9, 51 GPIO10, 52 NETLIGHT, 53 GND, 54 GND, 55 VBAT, 56 VBAT, 57 VBAT, 58 GND, 59 GND, 60 RF_ANT, 61 GND, 62 GND, 63 GND, 64 GND, 65 GND, 66 STATUS, 67 GPIO11, 68 GPIO12

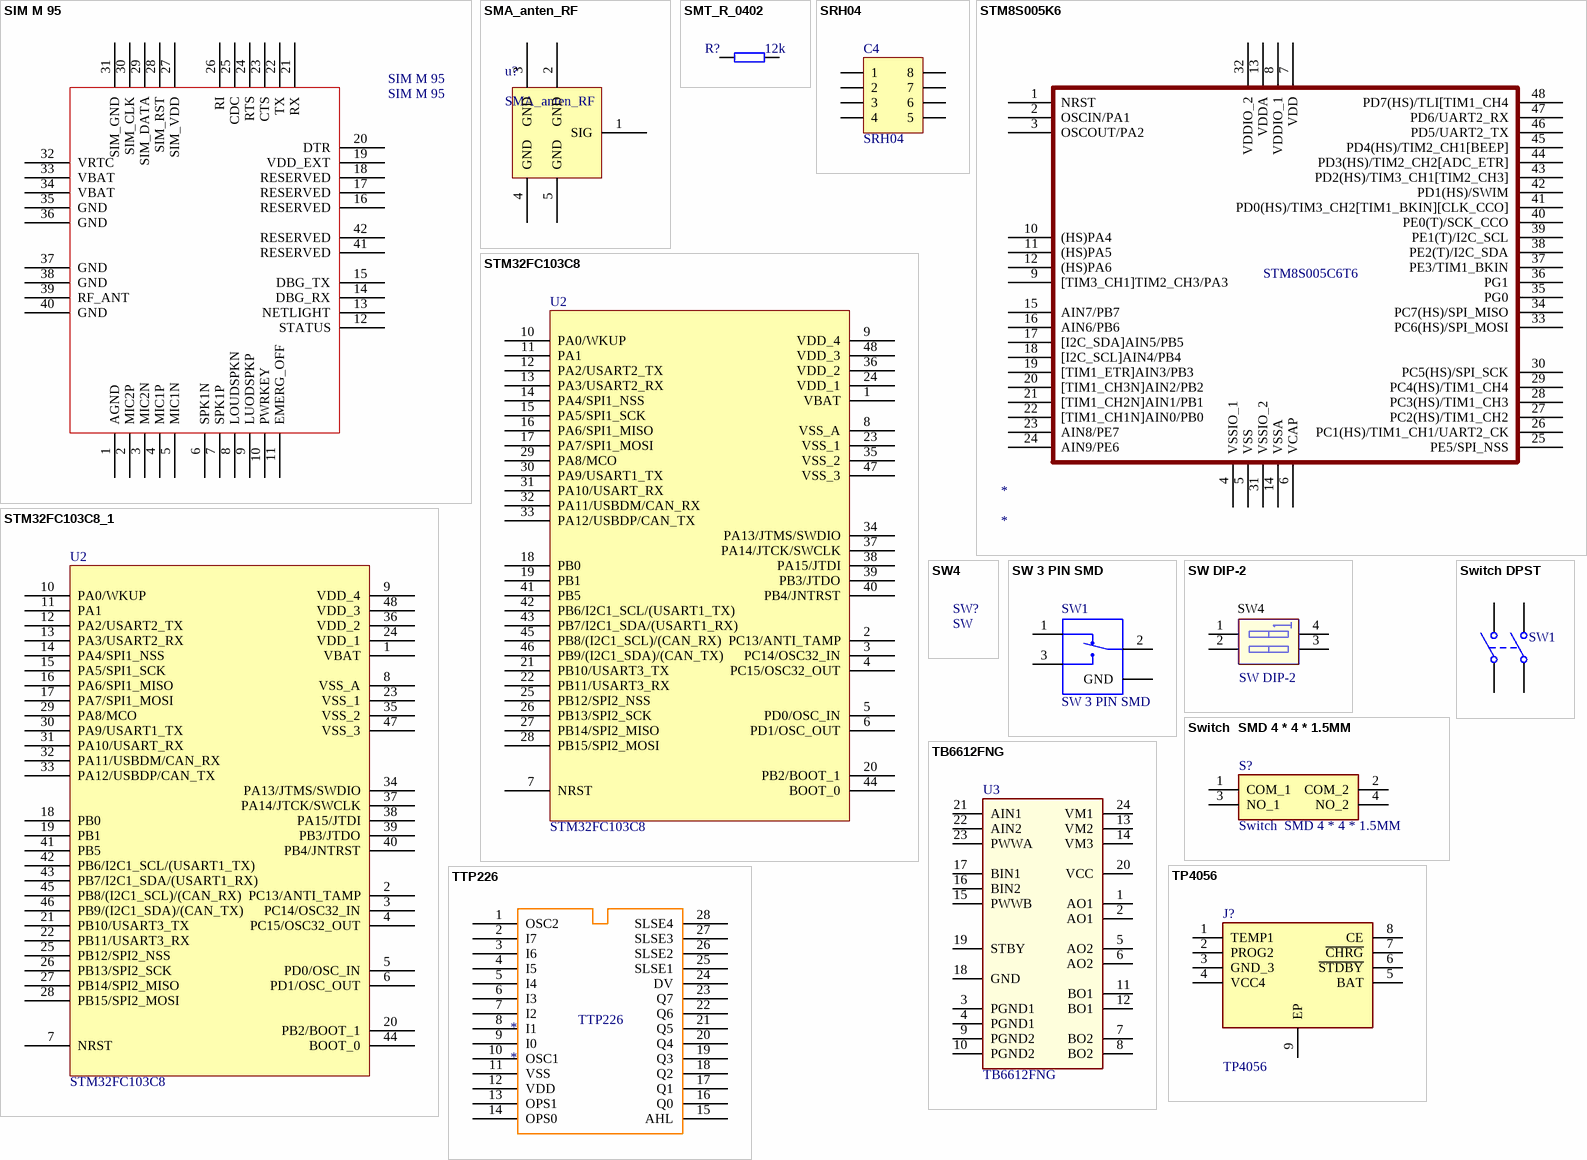
[diagram p3: symbols SIM M 95 to TTP226]

## SIM M 95
designator SIM M 95
footprint SIM M 95
pins: 1 AGND, 2 MIC2P, 3 MIC2N, 4 MIC1P, 5 MIC1N, 6 SPK1N, 7 SPK1P, 8 LOUDSPKN, 9 LUODSPKP, 10 PWRKEY, 11 EMERG_OFF, 12 STATUS, 13 NETLIGHT, 14 DBG_RX, 15 DBG_TX, 16 RESERVED, 17 RESERVED, 18 RESERVED, 19 VDD_EXT, 20 DTR, 21 RX, 22 TX, 23 CTS, 24 RTS, 25 CDC, 26 RI, 27 SIM_VDD, 28 SIM_RST, 29 SIM_DATA, 30 SIM_CLK, 31 SIM_GND, 32 VRTC, 33 VBAT, 34 VBAT, 35 GND, 36 GND, 37 GND, 38 GND, 39 RF_ANT, 40 GND, 41 RESERVED, 42 RESERVED

## SMA_anten_RF
designator u?
footprint Sma_anten_RF (Sim28)
pins: 1 SIG, 2 GND, 3 GND, 4 GND, 5 GND

## SMT_R_0402
designator R?, comment 12k
Surface mount resistor 0402
footprint SMT_R_0402 (Surface mount resistor 0402)
pins: 1, 2

## SRH04
designator C4
WR-PHD 2.54 mm Dual Socket Header; Manufacturer: W¨¹rth Elektronik eiSos GmbH; partNo: 61300821821; ComponentLink1 Description: Manufacturer; ComponentLink2 Description: Datasheet; NoPins: 08; Created Date: 29 March 2013; ComponentLink1URL: http://www.we-online.com; ComponentLink2URL: http://katalog.we-online.de/em/datasheet/6130xx21821.pdf; Created by: Karrer Zheng
footprint SRF04
pins: 1, 2, 3, 4, 5, 6, 7, 8

## STM8S005K6
designator *
footprint STM32F103
pins: 1 NRST, 2 OSCIN/PA1, 3 OSCOUT/PA2, 4 VSSIO_1, 5 VSS, 6 VCAP, 7 VDD, 8 VDDIO_1, 9 [TIM3_CH1]TIM2_CH3/PA3, 10 (HS)PA4, 11 (HS)PA5, 12 (HS)PA6, 13 VDDA, 14 VSSA, 15 AIN7/PB7, 16 AIN6/PB6, 17 [I2C_SDA]AIN5/PB5, 18 [I2C_SCL]AIN4/PB4, 19 [TIM1_ETR]AIN3/PB3, 20 [TIM1_CH3N]AIN2/PB2, 21 [TIM1_CH2N]AIN1/PB1, 22 [TIM1_CH1N]AIN0/PB0, 23 AIN8/PE7, 24 AIN9/PE6, 25 PE5/SPI_NSS, 26 PC1(HS)/TIM1_CH1/UART2_CK, 27 PC2(HS)/TIM1_CH2, 28 PC3(HS)/TIM1_CH3, 29 PC4(HS)/TIM1_CH4, 30 PC5(HS)/SPI_SCK, 31 VSSIO_2, 32 VDDIO_2, 33 PC6(HS)/SPI_MOSI, 34 PC7(HS)/SPI_MISO, 35 PG0, 36 PG1, 37 PE3/TIM1_BKIN, 38 PE2(T)/I2C_SDA, 39 PE1(T)/I2C_SCL, 40 PE0(T)/SCK_CCO, 41 PD0(HS)/TIM3_CH2[TIM1_BKIN][CLK_CCO], 42 PD1(HS)/SWIM, 43 PD2(HS)/TIM3_CH1[TIM2_CH3], 44 PD3(HS)/TIM2_CH2[ADC_ETR], 45 PD4(HS)/TIM2_CH1[BEEP], 46 PD5/UART2_TX, 47 PD6/UART2_RX, 48 PD7(HS)/TLI[TIM1_CH4
text: STM8S005C6T6

## STM32FC103C8
designator U2
footprint STM32F103C8T6
pins: 1 VBAT, 2 PC13/ANTI_TAMP, 3 PC14/OSC32_IN, 4 PC15/OSC32_OUT, 5 PD0/OSC_IN, 6 PD1/OSC_OUT, 7 NRST, 8 VSS_A, 9 VDD_4, 10 PA0/WKUP, 11 PA1, 12 PA2/USART2_TX, 13 PA3/USART2_RX, 14 PA4/SPI1_NSS, 15 PA5/SPI1_SCK, 16 PA6/SPI1_MISO, 17 PA7/SPI1_MOSI, 18 PB0, 19 PB1, 20 PB2/BOOT_1, 21 PB10/USART3_TX, 22 PB11/USART3_RX, 23 VSS_1, 24 VDD_1, 25 PB12/SPI2_NSS, 26 PB13/SPI2_SCK, 27 PB14/SPI2_MISO, 28 PB15/SPI2_MOSI, 29 PA8/MCO, 30 PA9/USART1_TX, 31 PA10/USART_RX, 32 PA11/USBDM/CAN_RX, 33 PA12/USBDP/CAN_TX, 34 PA13/JTMS/SWDIO, 35 VSS_2, 36 VDD_2, 37 PA14/JTCK/SWCLK, 38 PA15/JTDI, 39 PB3/JTDO, 40 PB4/JNTRST, 41 PB5, 42 PB6/I2C1_SCL/(USART1_TX), 43 PB7/I2C1_SDA/(USART1_RX), 44 BOOT_0, 45 PB8/(I2C1_SCL)/(CAN_RX), 46 PB9/(I2C1_SDA)/(CAN_TX), 47 VSS_3, 48 VDD_3

## STM32FC103C8_1
designator U2, comment STM32FC103C8
footprint STM32F103C8T6
pins: 1 VBAT, 2 PC13/ANTI_TAMP, 3 PC14/OSC32_IN, 4 PC15/OSC32_OUT, 5 PD0/OSC_IN, 6 PD1/OSC_OUT, 7 NRST, 8 VSS_A, 9 VDD_4, 10 PA0/WKUP, 11 PA1, 12 PA2/USART2_TX, 13 PA3/USART2_RX, 14 PA4/SPI1_NSS, 15 PA5/SPI1_SCK, 16 PA6/SPI1_MISO, 17 PA7/SPI1_MOSI, 18 PB0, 19 PB1, 20 PB2/BOOT_1, 21 PB10/USART3_TX, 22 PB11/USART3_RX, 23 VSS_1, 24 VDD_1, 25 PB12/SPI2_NSS, 26 PB13/SPI2_SCK, 27 PB14/SPI2_MISO, 28 PB15/SPI2_MOSI, 29 PA8/MCO, 30 PA9/USART1_TX, 31 PA10/USART_RX, 32 PA11/USBDM/CAN_RX, 33 PA12/USBDP/CAN_TX, 34 PA13/JTMS/SWDIO, 35 VSS_2, 36 VDD_2, 37 PA14/JTCK/SWCLK, 38 PA15/JTDI, 39 PB3/JTDO, 40 PB4/JNTRST, 41 PB5, 42 PB6/I2C1_SCL/(USART1_TX), 43 PB7/I2C1_SDA/(USART1_RX), 44 BOOT_0, 45 PB8/(I2C1_SCL)/(CAN_RX), 46 PB9/(I2C1_SDA)/(CAN_TX), 47 VSS_3, 48 VDD_3

## SW4
designator SW?, comment SW
Switch button 4 pin; Value: Button chip 4 pin
footprint SW4 (SW button 4pin, 250 x250 mil)
footprint SW4B (SW button 4pin, 450 x 450 mil)

## SW 3 PIN SMD
designator SW1
footprint SW 3 pin smd
pins: 1, 2, 3, G1 GND (power), G2 GND (power), G3 GND (power), G4 GND (power)

## SW DIP-2
designator SW4
DIP Switch, 2 Position, SPST; Vendor: Digikey; Published: 24-Mar-1999; LatestRevisionDate: 17-Jul-2002; LatestRevisionNote: Re-released for DXP Platform.; PackageReference: DIP-4; Publisher: Altium Limited; ComponentLink1Description: Digikey Part Link; ComponentLink2Description: Open Datasheet; ComponentLink2URL: H:\LIBRARY\LIBRARY.Datasheet\
pins: 1 A1, 2 A2, 3 B2, 4 B1

## Switch  SMD 4 * 4 * 1.5MM
designator S?
Switch; Manufacturer_Name: C & K COMPONENTS; Manufacturer_Part_Number: PTS526 SM15 SMTR2 LFS; Datasheet Link: https://www.mouser.com/datasheet/2/60/pts526-1651200.pdf; Height: 1.5mm; Mouser Part Number: 611-PTS526SM15SMTR2L; Mouser Price/Stock: https://www.mouser.co.uk/ProductDetail/CK/PTS526-SM15-SMTR2-LFS?qs=UXgszm6BlbENivbslIA%252B5g%3D%3D; Arrow Part Number: PTS526 SM15 SMTR2 LFS; Arrow Price/Stock: https://www.arrow.com/en/products/pts526-sm15-smtr2-lfs/ck?region=nac
footprint Switch  SMD 4 * 4 * 1.5MM
pins: 1 COM_1, 2 COM_2, 3 NO_1, 4 NO_2

## Switch DPST
designator SW1  (value not drawn)
Double-Pole, Single-Throw Switch; Published: 24-Mar-1999; LatestRevisionDate: 17-Jul-2002; LatestRevisionNote: Re-released for DXP Platform.; PackageReference: DPST-4; Publisher: Altium Limited
footprint BUTTON
pins: 1 COMMON1, 2 NO1, 3 NO2, 4 COMMON2

## TB6612FNG
designator U3
IC MOTOR DRIVER PAR 24SSOP
footprint SSOP-24 (SSOP, Plastic; 20 Leads; Body Width 5.3 mm; Pitch 0.65 mm)
pins: 1 AO1, 2 AO1, 3 PGND1, 4 PGND1, 5 AO2, 6 AO2, 7 BO2, 8 BO2, 9 PGND2, 10 PGND2, 11 BO1, 12 BO1, 13 VM2, 14 VM3, 15 PWWB, 16 BIN2, 17 BIN1, 18 GND, 19 STBY, 20 VCC, 21 AIN1, 22 AIN2, 23 PWWA, 24 VM1

## TP4056
designator J?
Connector; Manufacturer_Name: NanJing Top Power; Datasheet Link: https://dlnmh9ip6v2uc.cloudfront.net/datasheets/Prototyping/TP4056.pdf; Height: 1.75mm; Manufacturer_Part_Number: TP4056
footprint TP4056
pins: 1 TEMP1, 2 PROG2, 3 GND_3, 4 VCC4, 5 BAT, 6 ~{STDBY}, 7 ~{CHRG}, 8 CE, 9 EP

## TTP226
designator *
footprint TSSOP28 (TSSOP, 28-Leads, Body 10.20x5.30mm, Pitch 0.65mm, IPC High Density)
pins: 1 OSC2, 2 I7, 3 I6, 4 I5, 5 I4, 6 I3, 7 I2, 8 I1, 9 I0, 10 OSC1, 11 VSS, 12 VDD, 13 OPS1, 14 OPS0, 15 AHL, 16 Q0, 17 Q1, 18 Q2, 19 Q3, 20 Q4, 21 Q5, 22 Q6, 23 Q7, 24 DV, 25 SLSE1, 26 SLSE2, 27 SLSE3, 28 SLSE4

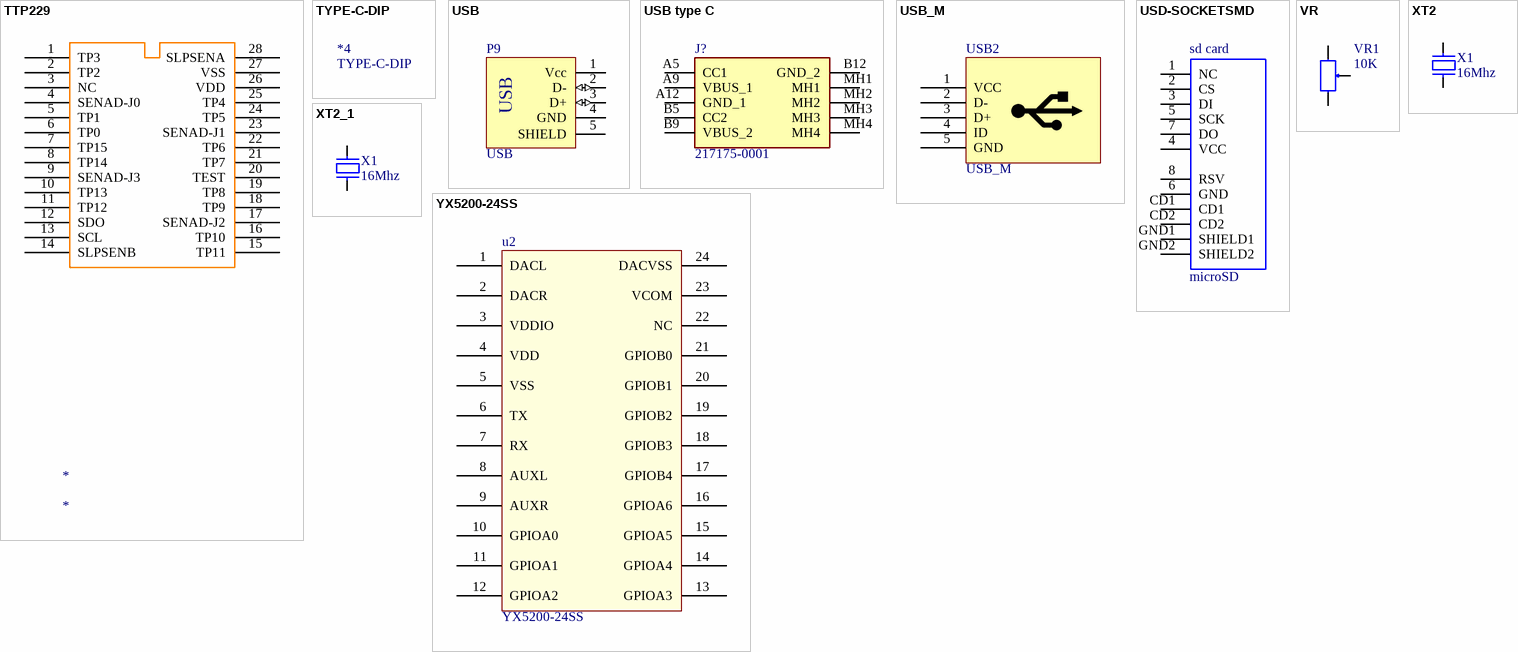
[diagram p4: symbols TTP229 to YX5200-24SS]

## TTP229
designator *
footprint TSSOP28 (TSSOP, 28-Leads, Body 10.20x5.30mm, Pitch 0.65mm, IPC High Density)
pins: 1 TP3, 2 TP2, 3 NC, 4 SENAD-J0, 5 TP1, 6 TP0, 7 TP15, 8 TP14, 9 SENAD-J3, 10 TP13, 11 TP12, 12 SDO, 13 SCL, 14 SLPSENB, 15 TP11, 16 TP10, 17 SENAD-J2, 18 TP9, 19 TP8, 20 TEST, 21 TP7, 22 TP6, 23 SENAD-J1, 24 TP5, 25 TP4, 26 VDD, 27 VSS, 28 SLPSENA

## TYPE-C-DIP
designator *4
footprint TYPE-C-DIP

## USB
designator P9
USB Port; LatestRevisionDate: 17-Jul-2002; LatestRevisionNote: Re-released for DXP Platform.; Publisher: Altium Limited
footprint USB_B_MINI_SMD
pins: 1 Vcc, 2 D- (io), 3 D+ (io), 4 GND, 5 SHIELD

## USB type C
designator J?, comment 217175-0001
Connector; Manufacturer_Name: Molex; Datasheet Link: https://www.molex.com/pdm_docs/sd/2171750001_sd.pdf; Height: 3.46mm; Manufacturer_Part_Number: 217175-0001; Mouser Part Number: 538-217175-0001; Mouser Price/Stock: https://www.mouser.co.uk/ProductDetail/Molex/217175-0001?qs=DRkmTr78QARWJMiqNnldSg%3D%3D
footprint USB TYPE C - duplicate
pins: A5 CC1, A9 VBUS_1, A12 GND_1, B5 CC2, B9 VBUS_2, B12 GND_2, MH1, MH2, MH3, MH4

## USB_M
designator USB2
footprint micro usb
footprint MICRO USB - duplicate2
footprint MICRO USB 2
pins: 1 VCC, 2 D-, 3 D+, 4 ID, 5 GND

## USD-SOCKETSMD
designator sd card, comment microSD
footprint MICRO-SD-SOCKET-PP
footprint MICRO-SD-SOCKET-PP
pins: 1 NC, 2 CS, 3 DI, 4 VCC, 5 SCK, 6 GND, 7 DO, 8 RSV, CD1, CD2, GND1 SHIELD1, GND2 SHIELD2

## VR
designator VR1, comment 10K
Var Resistor; Value: VR 10K
footprint VR1 (Variable Resistor)
footprint VR (Resistor Variable)
footprint VR2
pins: 1, 2, 3

## XT2
designator X1, comment 16Mhz
Crystal For all Crystal 2pin.; Value: 4Mhz
footprint XTAL
footprint XTAL_SMD
pins: 1, 2

## XT2_1
designator X1, comment 16Mhz
Crystal For all Crystal 2pin.; Value: 4Mhz
footprint XTAL
footprint XTAL_SMD
pins: 1, 2

## YX5200-24SS
designator u2
footprint YX5200-24SS
pins: 1 DACL, 2 DACR, 3 VDDIO, 4 VDD, 5 VSS, 6 TX, 7 RX, 8 AUXL, 9 AUXR, 10 GPIOA0, 11 GPIOA1, 12 GPIOA2, 13 GPIOA3, 14 GPIOA4, 15 GPIOA5, 16 GPIOA6, 17 GPIOB4, 18 GPIOB3, 19 GPIOB2, 20 GPIOB1, 21 GPIOB0, 22 NC, 23 VCOM, 24 DACVSS